# EAGLE library part SN75240PWR (library protection)
USB Port Transient Suppressors SN75240PWR FEATURES - Design to Protect Submicron 3-V or 5-V - Circuits from Noise Transients - Port ESD Protection Capability Exceeds: - 15-kV Human Body Model - 2-kV Machine Model - Available in a WCSP Chip-Scale Package - Stand-Off Voltage . . . 6 V Min - Low Current Leakage . . . 1 μA Max at 6 V - Low Capacitance . . . 35 pF Typical DESCRIPTION The SN65220 is a single transient voltage suppressor and the SN65240 and SN75240 are dual transient voltage suppressors designed to provide electrical noise transient protection to Universal Serial Bus (USB) full−speed ports. Note that the input capacitance of the device makes it unsuitable for high-speed USB 2.0 applications. Any cabled I/O can be subjected to electrical noise transients from various sources. These noise transients can cause damage to the USB transceiver and/or the USB ASIC if they are of sufficient magnitude and duration. USB ports are typically implemented in 3-V or 5-V digital CMOS with very limited ESD protection. The SN65220, SN65240, and SN75240 can significantly increase the port ESD protection level and reduce the risk of damage to the circuits of the USB port. The IEC1000-4-2 ESD performance of the SN65220, SN65240, and SN75240 is measured at the system level. Therefore, system design impacts the results of these tests. A high compliance level may be attained with proper board design and layout.
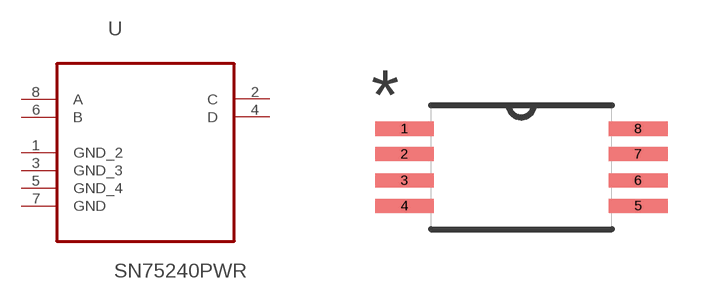
[diagram p2: symbol with the pads of SOP65P640X120-8N; footprint SOP65P640X120-8N]

Designator prefix U

## SN75240PWR (MPN: SN75240PWR; OC_FARNELL: 1100941; OC_NEWARK: 24C4633; PACKAGE: TSSOP-8; SUPPLIER: Texas Instruments)  [SOP65P640X120-8N]
1  GND_2  pas
2  C  pas
3  GND_3  pas
4  D  pas
5  GND_4  pas
6  B  pas
7  GND  pas
8  A  pas

## Footprint SOP65P640X120-8N (pad centres in mm)
smd 1.473 x 0.356: 1 -2.921,0.965; 2 -2.921,0.33; 3 -2.921,-0.33; 4 -2.921,-0.965; 5 2.921,-0.965; 6 2.921,-0.33; 7 2.921,0.33; 8 2.921,0.965